# EAGLE library part WSL (library Atmel - JTAG (AVR DRAGON!))
Name des Bauteiles: Wannenstecker 10 pol. Daten: 10 pol. goldene Kontakte ! Artikelnummer:#131236 / STL2 = 135020 Datenblatt:www.datasheet.com / www.reichelt.de
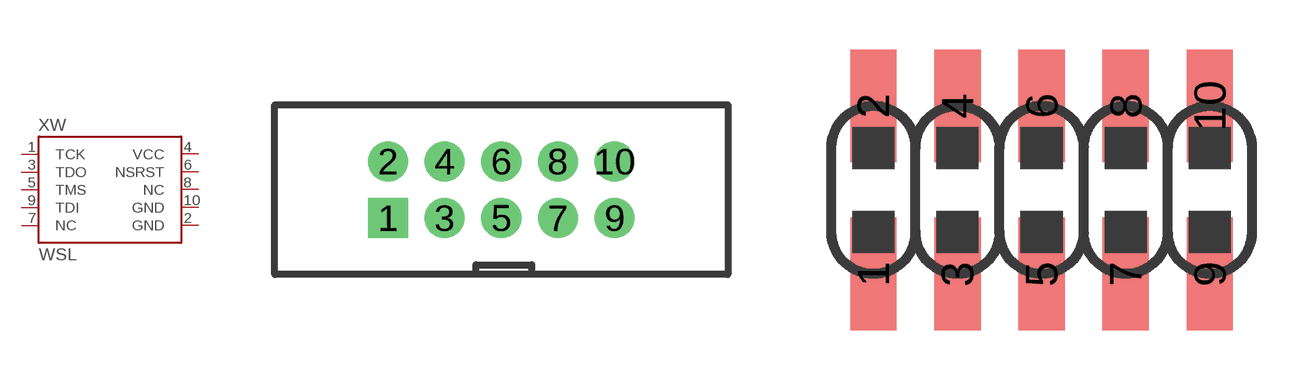
[diagram p0: symbol with the pads of WSL; footprints WSL, STL2]

Designator prefix XW

## WSL10  [WSL]
1  TCK
2  GND
3  TDO
4  VCC
5  TMS
6  NSRST
7  NC
8  NC
9  TDI
10  GND

## WSL-0660VGG-010CU  [STL2]
Pads as for WSL

## Footprint WSL (pad centres in mm)
drill 1.2 square: 1 -5.08,-1.27
drill 1.2: 2 -5.08,1.27; 3 -2.54,-1.27; 4 -2.54,1.27; 5 0,-1.27; 6 0,1.27; 7 2.54,-1.27; 8 2.54,1.27; 9 5.08,-1.27; 10 5.08,1.27

## Footprint STL2 (pad centres in mm)
smd 1.4 x 3.4: 1 -5.08,-2.54; 2 -5.08,2.54; 3 -2.54,-2.54; 4 -2.54,2.54; 5 0,-2.54; 6 0,2.54; 7 2.54,-2.54; 8 2.54,2.54; 9 5.08,-2.54; 10 5.08,2.54